# EAGLE library part H2FC-HEADER (library Custom_new)
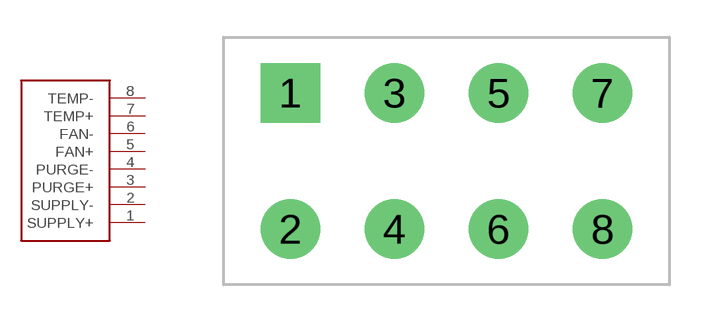
[diagram p5: symbol with the pads of 8PINVALULOK; footprint 8PINVALULOK]

Designator prefix -

## H2FC-HEADERDEFAULT  [8PINVALULOK]
1  SUPPLY+
2  SUPPLY-
3  PURGE+
4  PURGE-
5  FAN+
6  FAN-
7  TEMP+
8  TEMP-

## Footprint 8PINVALULOK (pad centres in mm)
drill 1.6 square: 1 0,5.5
drill 1.6: 2 0,0; 3 4.2,5.5; 4 4.2,0; 5 8.4,5.5; 6 8.4,0; 7 12.6,5.5; 8 12.6,0